# Altium schematic symbol library Single_Hand_YK.SCHLIB: 64 symbols
Pins are listed as number, name and electrical type; pins without a type are passive.

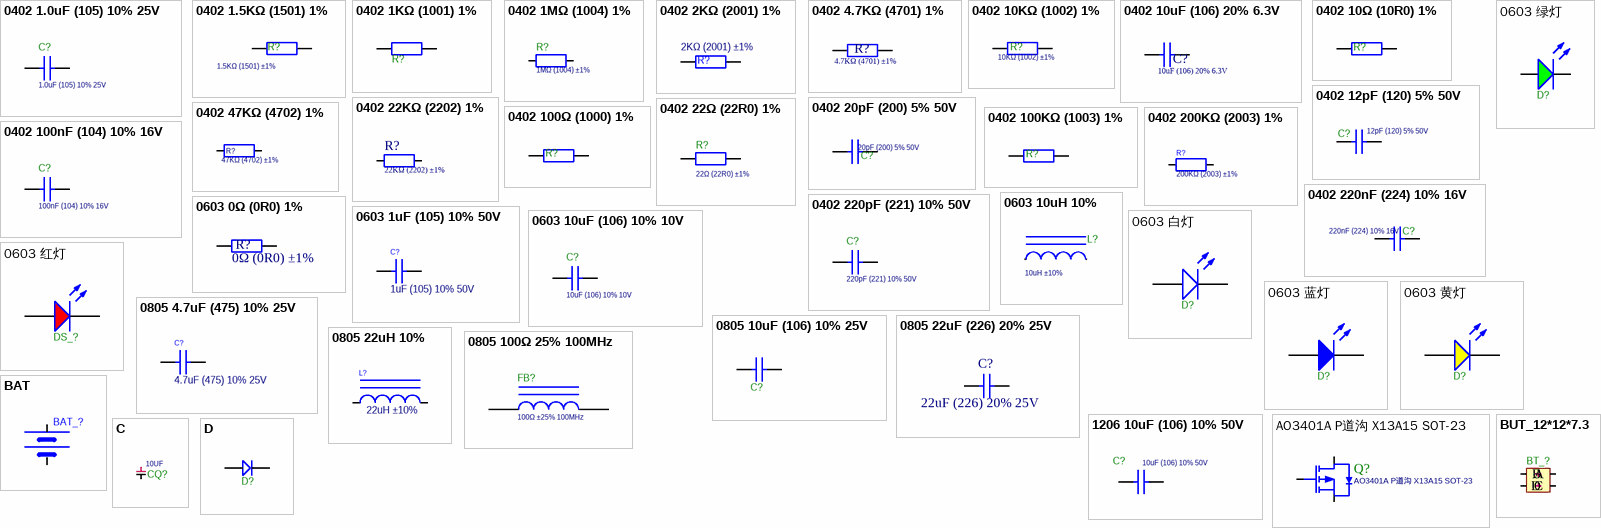
[diagram p0: symbols 0402 1.0uF (105) 10% 25V to D]

## 0402 1.0uF (105) 10% 25V
designator C?, comment 1.0uF (105) 10% 25V
贴片电容; ComponentLink1URL: http://www.szlcsc.com/product/details_53938.html; Package: 0402; Supplier: LC; SuppliersPartNumber: C52923
footprint 0402_C
pins: 1, 2

## 0402 1.5KΩ (1501) 1%
designator R?, comment 1.5KΩ (1501) ±1%
贴片电阻; ComponentLink1URL: http://www.szlcsc.com/product/details_26610.html; Package: 0402; Supplier: LC; SuppliersPartNumber: C25867
footprint 0402_R
pins: 1, 2

## 0402 1KΩ (1001) 1%
designator R?, comment 1KΩ (1001) ±1%  (value not drawn)
贴片电阻; ComponentLink1URL: http://www.szlcsc.com/product/details_12256.html; Package: 0402; Supplier: LC; SuppliersPartNumber: C11702
footprint 0402_R
pins: 1, 2

## 0402 1MΩ (1004) 1%
designator R?, comment 1MΩ (1004) ±1%
贴片电阻; ComponentLink1URL: http://www.szlcsc.com/product/details_26826.html; Package: 0402; Supplier: LC; SuppliersPartNumber: C26083
footprint 0402_R
pins: 1, 2

## 0402 2KΩ (2001) 1%
designator R?, comment 2KΩ (2001) ±1%
贴片电阻; ComponentLink1Description: 供应商链接; ComponentLink1URL: http://www.szlcsc.com/product/details_4516.html; Package: 0402; Supplier: LC; SuppliersPartNumber: C4109
footprint 0402_R
pins: 1, 2

## 0402 4.7KΩ (4701) 1%
designator R?, comment 4.7KΩ (4701) ±1%
贴片电阻; ComponentLink1Description: 供应商链接; ComponentLink1URL: http://www.szlcsc.com/product/details_26643.html; Package: 0402; Supplier: LC; SuppliersPartNumber: C25900
footprint 0402_R
pins: 1, 2

## 0402 10KΩ (1002) 1%
designator R?, comment 10KΩ (1002) ±1%
贴片电阻; ComponentLink1URL: http://www.szlcsc.com/product/details_26487.html; Package: 0402; Supplier: LC; SuppliersPartNumber: C25744
footprint 0402_R
pins: 1, 2

## 0402 10uF (106) 20% 6.3V
designator C?, comment 10uF (106) 20% 6.3V
贴片电容; ComponentLink1Description: 供应商链接; ComponentLink1URL: http://www.szlcsc.com/product/details_16204.html; Package: 0402; Supplier: LC; SuppliersPartNumber: C15525
footprint 0402_C
pins: 1, 2

## 0402 10Ω (10R0) 1%
designator R?, comment 10Ω (10R0) ±1%  (value not drawn)
贴片电阻; ComponentLink1URL: http://www.szlcsc.com/product/details_25820.html; Package: 0402; Supplier: LC; SuppliersPartNumber: C25077
footprint 0402_R
pins: 1, 2

## 0402 12pF (120) 5% 50V
designator C?, comment 12pF (120) 5% 50V
贴片电容; ComponentLink1URL: http://www.szlcsc.com/product/details_1899.html; Package: 0402; Supplier: LC; SuppliersPartNumber: C1547
footprint 0402_C
pins: 1, 2

## 0402 20pF (200) 5% 50V
designator C?, comment 20pF (200) 5% 50V
贴片电容; ComponentLink1URL: http://www.szlcsc.com/product/details_1906.html; Package: 0402; Supplier: LC; SuppliersPartNumber: C1554
footprint 0402_C
pins: 1, 2

## 0402 22KΩ (2202) 1%
designator R?, comment 22KΩ (2202) ±1%
贴片电阻; ComponentLink1Description: 供应商链接; ComponentLink1URL: http://www.szlcsc.com/product/details_26511.html; Package: 0402; Supplier: LC; SuppliersPartNumber: C25768
footprint 0402_R
pins: 1, 2

## 0402 22Ω (22R0) 1%
designator R?, comment 22Ω (22R0) ±1%
贴片电阻; ComponentLink1URL: http://www.szlcsc.com/product/details_25835.html; Package: 0402; Supplier: LC; SuppliersPartNumber: C25092
footprint 0402_R
pins: 1, 2

## 0402 47KΩ (4702) 1%
designator R?, comment 47KΩ (4702) ±1%
贴片电阻; ComponentLink1Description: 供应商链接; ComponentLink1URL: http://www.szlcsc.com/product/details_26535.html; Package: 0402; Supplier: LC; SuppliersPartNumber: C25792
footprint 0402_R
pins: 1, 2

## 0402 100KΩ (1003) 1%
designator R?, comment 100KΩ (1003) ±1%  (value not drawn)
贴片电阻; ComponentLink1URL: http://www.szlcsc.com/product/details_26484.html; Package: 0402; Supplier: LC; SuppliersPartNumber: C25741
footprint 0402_R
pins: 1, 2

## 0402 100nF (104) 10% 16V
designator C?, comment 100nF (104) 10% 16V
贴片电容; ComponentLink1URL: http://www.szlcsc.com/product/details_1877.html; Package: 0402; Supplier: LC; SuppliersPartNumber: C1525
footprint 0402_C
pins: 1, 2

## 0402 100Ω (1000) 1%
designator R?, comment 100Ω (1000) ±1%  (value not drawn)
贴片电阻; ComponentLink1URL: http://www.szlcsc.com/product/details_25819.html; Package: 0402; Supplier: LC; SuppliersPartNumber: C25076
footprint 0402_R
pins: 1, 2

## 0402 200KΩ (2003) 1%
designator R?, comment 200KΩ (2003) ±1%
贴片电阻; ComponentLink1Description: 供应商链接; ComponentLink1URL: http://www.szlcsc.com/product/details_26507.html; Package: 0402; Supplier: LC; SuppliersPartNumber: C25764
footprint 0402_R
pins: 1, 2

## 0402 220nF (224) 10% 16V
designator C?, comment 220nF (224) 10% 16V
贴片电容; ComponentLink1URL: http://www.szlcsc.com/product/details_17456.html; Package: 0402; Supplier: LC; SuppliersPartNumber: C16772
footprint 0402_C
pins: 1, 2

## 0402 220pF (221) 10% 50V
designator C?, comment 220pF (221) 10% 50V
贴片电容; ComponentLink1URL: http://www.szlcsc.com/product/details_1882.html; Package: 0402; Supplier: LC; SuppliersPartNumber: C1530
footprint 0402_C
pins: 1, 2

## 0603 0Ω (0R0) 1%
designator R?, comment 0Ω (0R0) ±1%
贴片电阻; ComponentLink1Description: 供应商链接; ComponentLink1URL: http://www.szlcsc.com/product/details_21903.html; Package: 0603; Supplier: LC; SuppliersPartNumber: C21189
footprint 0603_R
pins: 1, 2

## 0603 1uF (105) 10% 50V
designator C?, comment 1uF (105) 10% 50V
贴片电容; ComponentLink1Description: 供应商链接; ComponentLink1URL: http://www.szlcsc.com/product/details_16531.html; Package: 0603; Supplier: LC; SuppliersPartNumber: C15849
footprint 0603_C
pins: 1, 2

## 0603 10uF (106) 10% 10V
designator C?, comment 10uF (106) 10% 10V
贴片电容; ComponentLink1URL: http://www.szlcsc.com/product/details_20411.html; Package: 0603; Supplier: LC; SuppliersPartNumber: C19702
footprint 0603_C
pins: 1, 2

## 0603 10uH 10%
designator L?, comment 10uH ±10%
贴片电感; ComponentLink1URL: http://www.szlcsc.com/product/details_1387.html; Package: 0603; Supplier: LC; SuppliersPartNumber: C1035
footprint 0603_L
pins: 1, 2

## 0603 白灯
designator D?, comment 白灯 0603  (value not drawn)  (no BOM)
发光二极管; ComponentLink1URL: http://www.szlcsc.com/product/details_2663.html; Package: 0603; Supplier: LC; SuppliersPartNumber: C2290
footprint 0603_LED_S1
footprint LED-5MM
pins: 1 A, 2 K

## 0603 红灯
designator DS_?, comment 红灯 0603  (value not drawn)  (no BOM)
发光二极管; ComponentLink1URL: http://www.szlcsc.com/product/details_2659.html; Package: 0603; Supplier: LC; SuppliersPartNumber: C2286
footprint 0603_LED_S1
footprint LED-5MM
pins: 1 A, 2 K

## 0603 绿灯
designator D?, comment 绿灯 0603  (value not drawn)  (no BOM)
发光二极管; ComponentLink1URL: http://www.szlcsc.com/product/details_73152.html; Package: 0603; Supplier: LC; SuppliersPartNumber: C72043
footprint 0603_LED_S1
footprint LED-5MM
pins: 1 A, 2 K

## 0603 蓝灯
designator D?, comment 蓝灯 0603  (value not drawn)  (no BOM)
发光二极管; ComponentLink1URL: http://www.szlcsc.com/product/details_73150.html; Package: 0603; Supplier: LC; SuppliersPartNumber: C72041
footprint 0603_LED_S1
footprint LED-5MM
pins: 1 A, 2 K

## 0603 黄灯
designator D?, comment 黄灯 0603  (value not drawn)  (no BOM)
发光二极管; ComponentLink1URL: http://www.szlcsc.com/product/details_73147.html; Package: 0603; Supplier: LC; SuppliersPartNumber: C72038
footprint 0603_LED_S1
footprint LED-5MM
pins: 1 A, 2 K

## 0805 4.7uF (475) 10% 25V
designator C?, comment 4.7uF (475) 10% 25V
贴片电容; ComponentLink1Description: 供应商链接; ComponentLink1URL: http://www.szlcsc.com/product/details_2131.html; Package: 0805; Supplier: LC; SuppliersPartNumber: C1779
footprint 0805_C
pins: 1, 2

## 0805 10uF (106) 10% 25V
designator C?, comment 10uF (106) 10% 25V  (value not drawn)
贴片电容; ComponentLink1URL: http://www.szlcsc.com/product/details_16532.html; Package: 0805; Supplier: LC; SuppliersPartNumber: C15850
footprint 0805_C
pins: 1, 2

## 0805 22uF (226) 20% 25V
designator C?, comment 22uF (226) 20% 25V
贴片电容; ComponentLink1Description: 供应商链接; ComponentLink1URL: http://www.szlcsc.com/product/details_46786.html; Package: 0805; Supplier: LC; SuppliersPartNumber: C45783
footprint 0805_C
pins: 1, 2

## 0805 22uH 10%
designator L?, comment 22uH ±10%
贴片电感; ComponentLink1Description: 供应商链接; ComponentLink1URL: http://www.szlcsc.com/product/details_33340.html; Package: 0805; Supplier: LC; SuppliersPartNumber: C32375
footprint 0805_L
pins: 1, 2

## 0805 100Ω 25% 100MHz
designator FB?, comment 100Ω ±25% 100MHz
贴片磁珠; ComponentLink1URL: http://www.szlcsc.com/product/details_1367.html; Package: 0805; Supplier: LC; SuppliersPartNumber: C1015
footprint 0805_L
pins: 1, 2

## 1206 10uF (106) 10% 50V
designator C?, comment 10uF (106) 10% 50V
贴片电容; ComponentLink1URL: http://www.szlcsc.com/product/details_14236.html; Package: 1206; Supplier: LC; SuppliersPartNumber: C13585
footprint 1206_C
pins: 1, 2

## AO3401A P道沟 X13A15 SOT-23
designator Q?
MOS(场效应管); ComponentLink1Description: 供应商链接; ComponentLink1URL: http://www.szlcsc.com/product/details_15801.html; Package: SOT-23; Supplier: LC; SuppliersPartNumber: C15127
footprint SOT-23-3L (http://www.aosmd.com/res/packaging_information/SOT-23-3L.pdf)
pins: 1 G, 2 S, 3 D

## BAT
designator BAT_?, comment CR1120  (value not drawn)
footprint BATM (BAT)
footprint XH2.54-2
footprint BAT-CR1220
footprint HDR1X2 (Connector; Header; 2 Position)
pins: 1 VCC, 2 GND

## BUT_12*12*7.3
designator BT_?  (value not drawn)
footprint SW-1212
pins: 1 A, 1 B, 2 D, 2 C

## C
designator CQ?, comment 10UF
贴片电容; VAL: 贴片电容10UF 100V 1210 106K 10% X7R 无极性电容10UF C3225陶瓷; Package: C1210
footprint C1210
pins: 1, 2

## D
designator D?, comment CMS01  (value not drawn)
二极管
footprint M-FLAT
pins: 1, 2

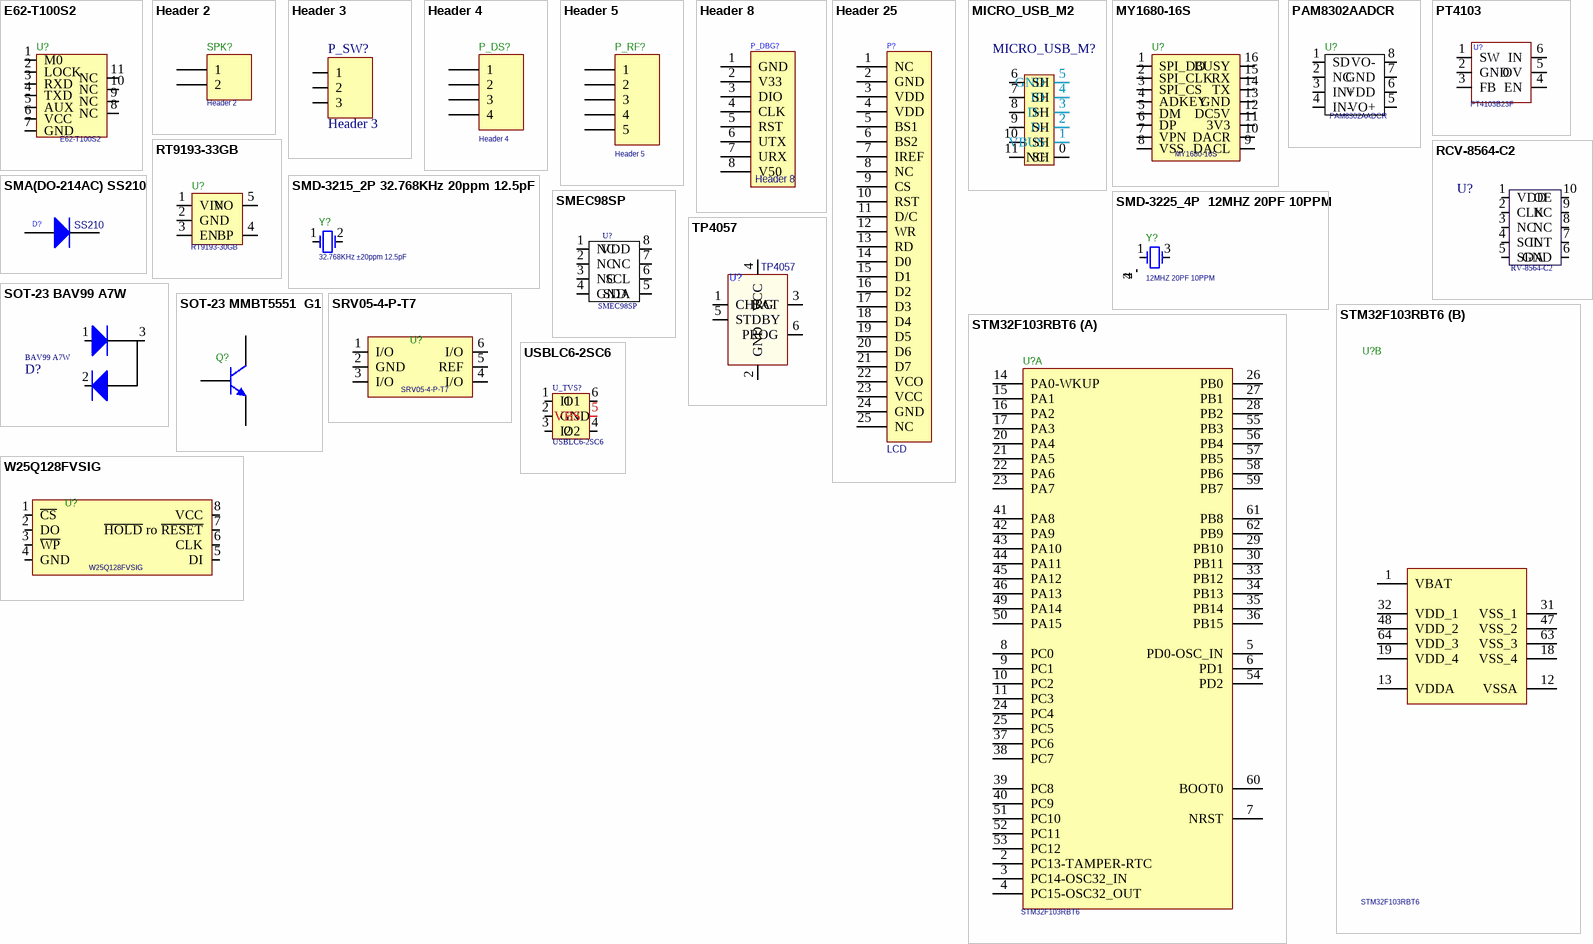
[diagram p1: symbols E62-T100S2 to W25Q128FVSIG]

## E62-T100S2
designator U?
433M无线模块
footprint E62-T100S2 (433M无线模块)
pins: 1 M0, 2 LOCK, 3 RXD, 4 TXD, 5 AUX, 6 VCC, 7 GND, 8 NC, 9 NC, 10 NC, 11 NC

## Header 2
designator SPK?
Header, 2-Pin
footprint HDR1X2 (Connector; Header; 2 Position)
signal-integrity model Connector
pins: 1, 2

## Header 3
designator P_SW?
Header, 3-Pin; LatestRevisionDate: 17-Jul-2002; LatestRevisionNote: Re-released for DXP Platform.; Publisher: Altium Limited
footprint HDR1X3 (Connector; Header; 3 Position)
signal-integrity model Connector
pins: 1, 2, 3

## Header 4
designator P_DS?
Header, 4-Pin
footprint MHDR1X4 (Connector; Header; 4 Position)
signal-integrity model Connector
pins: 1, 2, 3, 4

## Header 5
designator P_RF?
Header, 5-Pin
footprint HDR1X5 (Connector; Header; 5 Position)
signal-integrity model Connector
footprint SMA-2
pins: 1, 2, 3, 3 4, 3 5

## Header 8
designator P_DBG?
Header, 8-Pin
footprint MHDR1X8 (Connector; Header; 8 Position)
pins: 1 GND, 2 V33, 3 DIO, 4 CLK, 5 RST, 6 UTX, 7 URX, 8 V50

## Header 25
designator P?, comment LCD
Header, 25-Pin
footprint TOEL9M0038 (Footprint not found)
footprint TOEL9M0038
pins: 1 NC, 2 GND, 3 VDD, 4 VDD, 5 BS1, 6 BS2, 7 IREF, 8 NC, 9 CS, 10 RST, 11 D/C, 12 WR, 13 RD, 14 D0, 15 D1, 16 D2, 17 D3, 18 D4, 19 D5, 20 D6, 21 D7, 22 VCO, 23 VCC, 24 GND, 25 NC

## MICRO_USB_M2
designator MICRO_USB_M?, comment 沉板MICRO_USB  (value not drawn)
小米2尾插; 链接: https://item.taobao.com/item.htm?spm=a1z09.2.0.0.d16f2e8dajnK9S&id=564757951180&_u=u102dhvu3d27
footprint MICRO_USB (小米2尾插 M2 2S 2A尾插)
pins: 0 NC, 1 VBUS, 2 D-, 3 D+, 4 ID, 5 GND, 6 SH, 7 SH, 8 SH, 9 SH, 10 SH, 11 SH

## MY1680-16S
designator U?
音频IC
footprint SOIC-16_150mil
pins: 1 SPI_DO, 2 SPI_CLK, 3 SPI_CS, 4 ADKEY, 5 DM, 6 DP, 7 VPN, 8 VSS, 9 DACL, 10 DACR, 11 3V3, 12 DC5V, 13 GND, 14 TX, 15 RX, 16 BUSY

## PAM8302AADCR
designator U?
音频放大器
footprint SOIC-8_150mil
pins: 1 SD, 2 NC, 3 IN+, 4 IN-, 5 VO+, 6 VDD, 7 GND, 8 VO-

## PT4103
designator U?, comment PT4103B23F
LED驱动; ComponentLink1URL: http://item.szlcsc.com/20570.html; Package: SOT-23-6; SuppliersPartNumber: C19861; ComponentLink1Description: 供应商链接
footprint SOT23-6
pins: 1 SW, 2 GND, 3 FB, 4 EN, 5 OV, 6 IN

## RCV-8564-C2
designator U?, comment RV-8564-C2
RTC时钟IC; ComponentLink1URL: https://item.taobao.com/item.htm?spm=a1z09.2.0.0.37342e8dj7yxy8&id=42171082284&_u=2102dhvu65a5; ComponentLink1Description: 供应商链接
footprint RV-8564-C2
pins: 1 VDD, 2 CLK, 3 NC, 4 SCL, 5 SDA, 6 GND, 7 INT, 8 NC, 9 NC, 10 OE

## RT9193-33GB
designator U?, comment RT9193-30GB
低压差线性稳压(LDO); SuppliersPartNumber: C50004; Package: SOT-23-5; ComponentLink1URL: http://www.szlcsc.com/product/details_51013.html
footprint SOT-23-5
pins: 1 VIN, 2 GND, 3 EN, 4 BP, 5 VO

## SMA(DO-214AC) SS210
designator D?, comment SS210
二极管; ComponentLink1Description: 供应商链接; ComponentLink1URL: http://www.szlcsc.com/product/details_15669.html; Package: SMA(DO-214AC); Supplier: LC; SuppliersPartNumber: C14996
footprint SMA(DO-214AC)_S1
pins: 1 A, 2 K

## SMD-3215_2P 32.768KHz 20ppm 12.5pF
designator Y?, comment 32.768KHz ±20ppm 12.5pF
贴片晶振; ComponentLink1URL: http://www.szlcsc.com/product/details_33310.html; Package: SMD-3215_2P; Supplier: LC; SuppliersPartNumber: C32346
footprint SMD-3215_2P FC - 135
pins: 1 OSC1, 2 OSC2

## SMD-3225_4P  12MHZ 20PF 10PPM
designator Y?, comment 12MHZ 20PF 10PPM
贴片晶振; ComponentLink1URL: http://www.szlcsc.com/product/details_9522.html; Package: SMD-3225_4P; Supplier: LC; SuppliersPartNumber: C9002
footprint SMD-3225_4P
pins: 1 OSC1, 2 GND, 3 OSC2, 4 GND

## SMEC98SP
designator U?
防抄板加密芯片SMEC98SP; ComponentLink1URL: https://item.taobao.com/item.htm?spm=a1z10.3-c.w4002-15088534153.13.540b588a2BCacW&id=542824980770; ComponentLink1Description: 供应商链接
footprint SOP8
pins: 1 NC, 2 NC, 3 NC, 4 GND, 5 SDA, 6 SCL, 7 NC, 8 VDD

## SOT-23 BAV99 A7W
designator D?, comment BAV99 A7W
开关二极管; ComponentLink1Description: 供应商链接; ComponentLink1URL: http://www.szlcsc.com/product/details_2877.html; Package: SOT-23; Supplier: LC; SuppliersPartNumber: C2500
footprint SOT-23(SOT-23-3)
pins: 1 A, 2 A, 3 K

## SOT-23 MMBT5551  G1
designator Q?, comment MMBT5551  G1  (value not drawn)
三极管; ComponentLink1URL: http://www.szlcsc.com/product/details_2502.html; Package: SOT-23; Supplier: LC; SuppliersPartNumber: C2145
footprint SOT-23(SOT-23-3)
pins: 1 B, 2 E, 3 C

## SRV05-4-P-T7
designator U?
TVS; ComponentLink1URL: http://www.szlcsc.com/product/details_86537.html; Package: SOT-23-6; Supplier: LC; SuppliersPartNumber: C85364
footprint SOT-23-6
pins: 1 I/O, 2 GND, 3 I/O, 4 I/O, 5 REF, 6 I/O

## STM32F103RBT6
designator U?
ARM; ComponentLink1URL: http://www.szlcsc.com/product/details_9244.html; Package: LQFP-64_10x10x05P; Supplier: LC; SuppliersPartNumber: C8735
footprint LQFP-64_10x10x05P
part A pins: 2 PC13-TAMPER-RTC, 3 PC14-OSC32_IN, 4 PC15-OSC32_OUT, 5 PD0-OSC_IN, 6 PD1, 7 NRST, 8 PC0, 9 PC1, 10 PC2, 11 PC3, 14 PA0-WKUP, 15 PA1, 16 PA2, 17 PA3, 20 PA4, 21 PA5, 22 PA6, 23 PA7, 24 PC4, 25 PC5, 26 PB0, 27 PB1, 28 PB2, 29 PB10, 30 PB11, 33 PB12, 34 PB13, 35 PB14, 36 PB15, 37 PC6, 38 PC7, 39 PC8, 40 PC9, 41 PA8, 42 PA9, 43 PA10, 44 PA11, 45 PA12, 46 PA13, 49 PA14, 50 PA15, 51 PC10, 52 PC11, 53 PC12, 54 PD2, 55 PB3, 56 PB4, 57 PB5, 58 PB6, 59 PB7, 60 BOOT0, 61 PB8, 62 PB9
part B pins: 1 VBAT (power), 12 VSSA, 13 VDDA, 18 VSS_4, 19 VDD_4, 31 VSS_1, 32 VDD_1, 47 VSS_2, 48 VDD_2, 63 VSS_3, 64 VDD_3

## TP4057
designator U?
电池电源管理芯片; ComponentLink1URL: http://item.szlcsc.com/12599.html; Package: SOT-23-6; SuppliersPartNumber: C12044; ComponentLink1Description: 供应商链接
footprint SOT-23-6
pins: 1 CHRG, 2 GND, 3 BAT, 4 VCC, 5 STDBY, 6 PROG

## USBLC6-2SC6
designator U_TVS?
ESD二极管; ComponentLink1URL: http://item.szlcsc.com/7996.html; SuppliersPartNumber: C7519; Package: SOT-23-6; ComponentLink1Description: 供应商链接
footprint SOT-23-6
pins: 1 I1, 2 GND, 3 I2, 4 O2, 5 VBS, 6 O1

## W25Q128FVSIG
designator U?
Flash ROM; ComponentLink1URL: http://www.szlcsc.com/product/details_36072.html; Package: SOIC-8; Supplier: LC; SuppliersPartNumber: C35101
footprint SOIC-8_208mil
pins: 1 ~{CS}, 2 DO, 3 ~{WP}, 4 GND, 5 DI, 6 CLK, 7 ~{HOLD} ro ~{RESET}, 8 VCC